# Altium integrated library Mbed.IntLib: 1 symbol
Pins are listed as number, name and electrical type; pins without a type are passive.

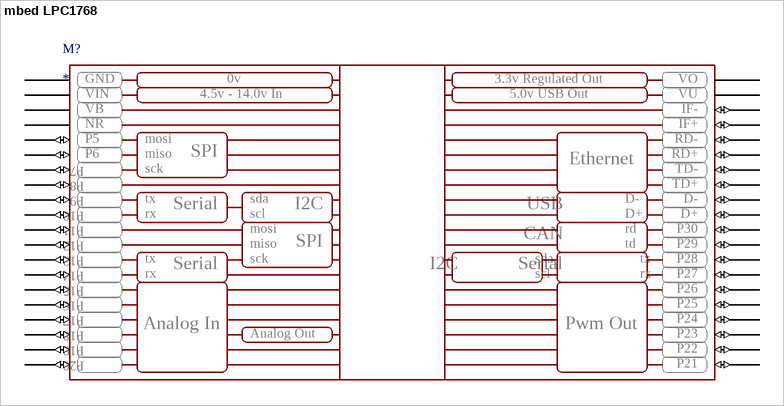
[diagram p0: symbol mbed LPC1768]

## mbed LPC1768
designator M?
footprint DIP40
pins: 1 GND (power), 2 VIN (power), 3 VB (power), 4 NR (power), 5 P5 (io), 6 P6 (io), 7 P7 (io), 8 P8 (io), 9 P9 (io), 10 P10 (io), 11 P11 (io), 12 P12 (io), 13 P13 (io), 14 P14 (io), 15 P15 (io), 16 P16 (io), 17 P17 (io), 18 P18 (io), 19 P19 (io), 20 P20 (io), 21 P21 (io), 22 P22 (io), 23 P23 (io), 24 P24 (io), 25 P25 (io), 26 P26 (io), 27 P27 (io), 28 P28 (io), 29 P29 (io), 30 P30 (io), 31 D+ (io), 32 D- (io), 33 TD+ (io), 34 TD- (io), 35 RD+ (io), 36 RD- (io), 37 IF+ (io), 38 IF- (io), 39 VU (power), 40 VO (power)
text: 0v; 3.3v Regulated Out; 4.5v - 14.0v In; 5.0v USB Out; mosi; miso; SPI; Ethernet; sck; tx; sda; Serial; I2C; USB; rx; scl; rd; CAN; td; Analog In; Pwm Out; Analog Out